# Altium schematic symbol library SP_PIEZO.SchLib: 1 symbol
Pins are listed as number, name and electrical type; pins without a type are passive.

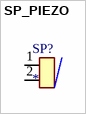
[diagram p0: symbol SP_PIEZO]

## SP_PIEZO
designator SP?
pins: 1, 2